# Altium schematic symbol library Components - 23.07.26 - 00.13.SchLib: 1 symbol
Pins are listed as number, name and electrical type; pins without a type are passive.

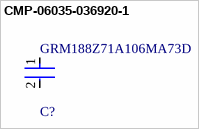
[diagram p0: symbol CMP-06035-036920-1]

## CMP-06035-036920-1
designator C?, comment GRM188Z71A106MA73D
Chip Multilayer Ceramic Capacitors for General Purpose, 0603, 10uF, X7R, 15%, 20%, 10V; Case/Package: 0603
footprint FP-GRM188-0_2-IPC_C
footprint FP-GRM188-0_2-IPC_B
footprint FP-GRM188-0_2-MFG
footprint FP-GRM188-0_2-IPC_A
pins: 1, 2